# EAGLE library part ADA4841 (library SmartMDCPrint)
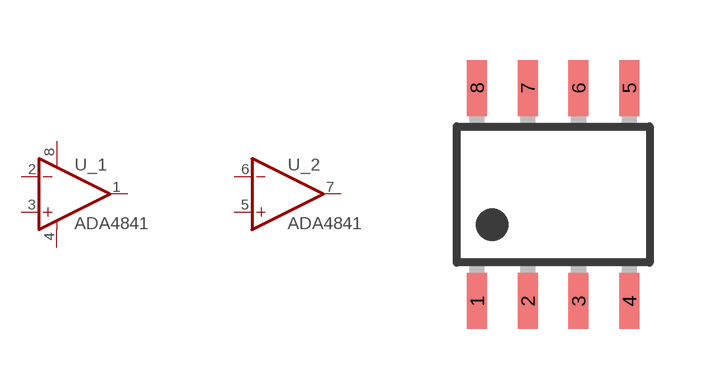
[diagram p8: symbol with the pads of SOIC-8; footprint SOIC-8]

Designator prefix U; gates _2=OP-AMP _1=OP-AMP+-

## ADA4841-2  [SOIC-8]
1  _1:OUT  out
2  _1:-IN  in
3  _1:+IN  in
4  _1:V-  pwr
5  _2:+IN  in
6  _2:-IN  in
7  _2:OUT  out
8  _1:V+  pwr

## Footprint SOIC-8 (pad centres in mm)
SOIC-8 150 mil Package
smd 0.5 x 1.4: 1 -1.905,-2.667; 2 -0.635,-2.667; 3 0.635,-2.667; 4 1.905,-2.667; 5 1.905,2.667; 6 0.635,2.667; 7 -0.635,2.667; 8 -1.905,2.667